# EAGLE library part 74HCT4051 (library Bits_library_eagle 9x)
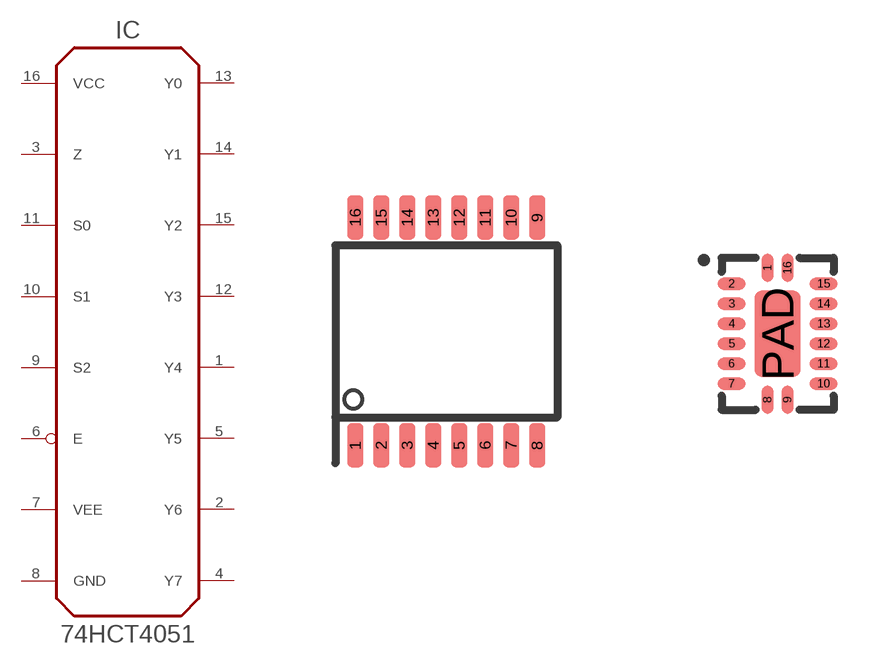
[diagram p45: symbol with the pads of TSSOP16; footprints TSSOP16, DHVQFN16_PAD]

Designator prefix IC

## 74HCT4051  [TSSOP16]
1  Y4
2  Y6
3  Z
4  Y7
5  Y5
6  E
7  VEE  pwr
8  GND  pwr
9  S2
10  S1
11  S0
12  Y3
13  Y0
14  Y1
15  Y2
16  VCC  pwr

## 74HCT4051B  [DHVQFN16_PAD]
1  Y4
2  Y6
3  Z
4  Y7
5  Y5
6  E
7  VEE  pwr
8  GND  pwr
9  S2
10  S1
11  S0
12  Y3
13  Y0
14  Y1
15  Y2
16  VCC  pwr
PAD  VCC  pwr

## 74HCT4051SO  [SO16]
Pads as for TSSOP16

## Footprint TSSOP16 (pad centres in mm)
smd 0.4 x 1.1: 1 -2.275,-2.85; 2 -1.625,-2.85; 3 -0.975,-2.85; 4 -0.325,-2.85; 5 0.325,-2.85; 6 0.975,-2.85; 7 1.625,-2.85; 8 2.275,-2.85; 9 2.275,2.85; 10 1.625,2.85; 11 0.975,2.85; 12 0.325,2.85; 13 -0.325,2.85; 14 -0.975,2.85; 15 -1.625,2.85; 16 -2.275,2.85

## Footprint DHVQFN16_PAD (pad centres in mm)
smd 0.3 x 0.7: 1 -0.25,1.65; 8 -0.25,-1.65; 9 0.25,-1.65; 16 0.25,1.65
smd 0.7 x 0.3: 2 -1.15,1.25; 3 -1.15,0.75; 4 -1.15,0.25; 5 -1.15,-0.25; 6 -1.15,-0.75; 7 -1.15,-1.25; 10 1.15,-1.25; 11 1.15,-0.75; 12 1.15,-0.25; 13 1.15,0.25; 14 1.15,0.75; 15 1.15,1.25
smd 1.15 x 2.15: PAD 0,0

## Footprint SO16 (pad centres in mm)
smd 0.6 x 1.5: 1 -4.445,-2.85; 2 -3.175,-2.85; 3 -1.905,-2.85; 4 -0.635,-2.85; 5 0.635,-2.85; 6 1.905,-2.85; 7 3.175,-2.85; 8 4.445,-2.85; 9 4.445,2.85; 10 3.175,2.85; 11 1.905,2.85; 12 0.635,2.85; 13 -0.635,2.85; 14 -1.905,2.85; 15 -3.175,2.85; 16 -4.445,2.85